# Altium footprint library Thermistor NTC 265V.PcbLib: 1 footprints
Each footprint in its own frame and in the unit in brackets; x right, y up, seen from the top. Pads: shape width x height; smd on the part's side, far side on the other; paste and mask are expansions set on the pad; w line width, h text height; cw(c..) or ccw(c..) is an arc to the next point about the centre after c.
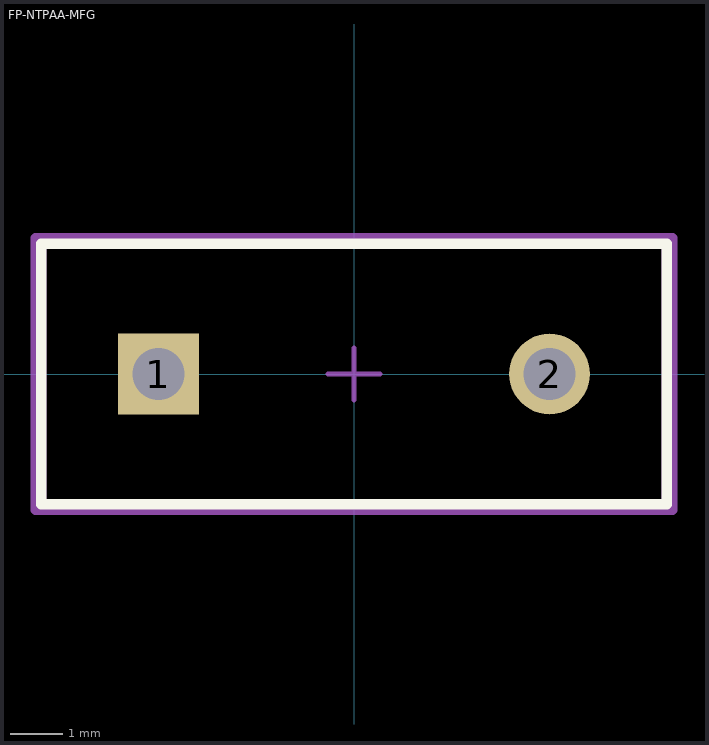
[diagram p0: the footprint, top view; thin cyan lines are the x and y axes]

## FP-NTPAA-MFG [mm]
pads (2):
  rect 1.55x1.55 hole 1 paste-2539.97 mask+0: 1(-3.75,0)
  round 1.55 hole 1 paste-2539.97 mask+0: 2(3.75,0)
Top Overlay:
  lines w0.2: -6,-2.5 -6,2.5 6,2.5 6,-2.5 -6,-2.5
Top Assembly:
  lines w0.2: -6.1,-2.6 -6.1,2.6 6.1,2.6 6.1,-2.6 -6.1,-2.6
  text ".Designator" at 0,-0.001 h1
Top 3D Body:
  lines w0.2: -6,-2.5 -6,2.5 6,2.5 6,-2.5 -6,-2.5
Top Courtyard:
  lines w0.2: -6.1,-2.6 -6.1,2.6 6.1,2.6 6.1,-2.6 -6.1,-2.6
Top Component Center:
  lines w0.1: -0.5,0 0.5,0 ; 0,-0.5 0,0.5
3D body "Res_Murata_Electronics_North_America_NTPAA2R2LDNB0_eec.STEP": height 0.25, standoff 0, extent -6.1,-2.6 6.1,2.6